# Altium footprint library Hardware.PcbLib: 24 footprints (part 1 of 2)
Each footprint in its own frame and in the unit in brackets; x right, y up, seen from the top. Pads: shape width x height; smd on the part's side, far side on the other; paste and mask are expansions set on the pad; w line width, h text height; cw(c..) or ccw(c..) is an arc to the next point about the centre after c.
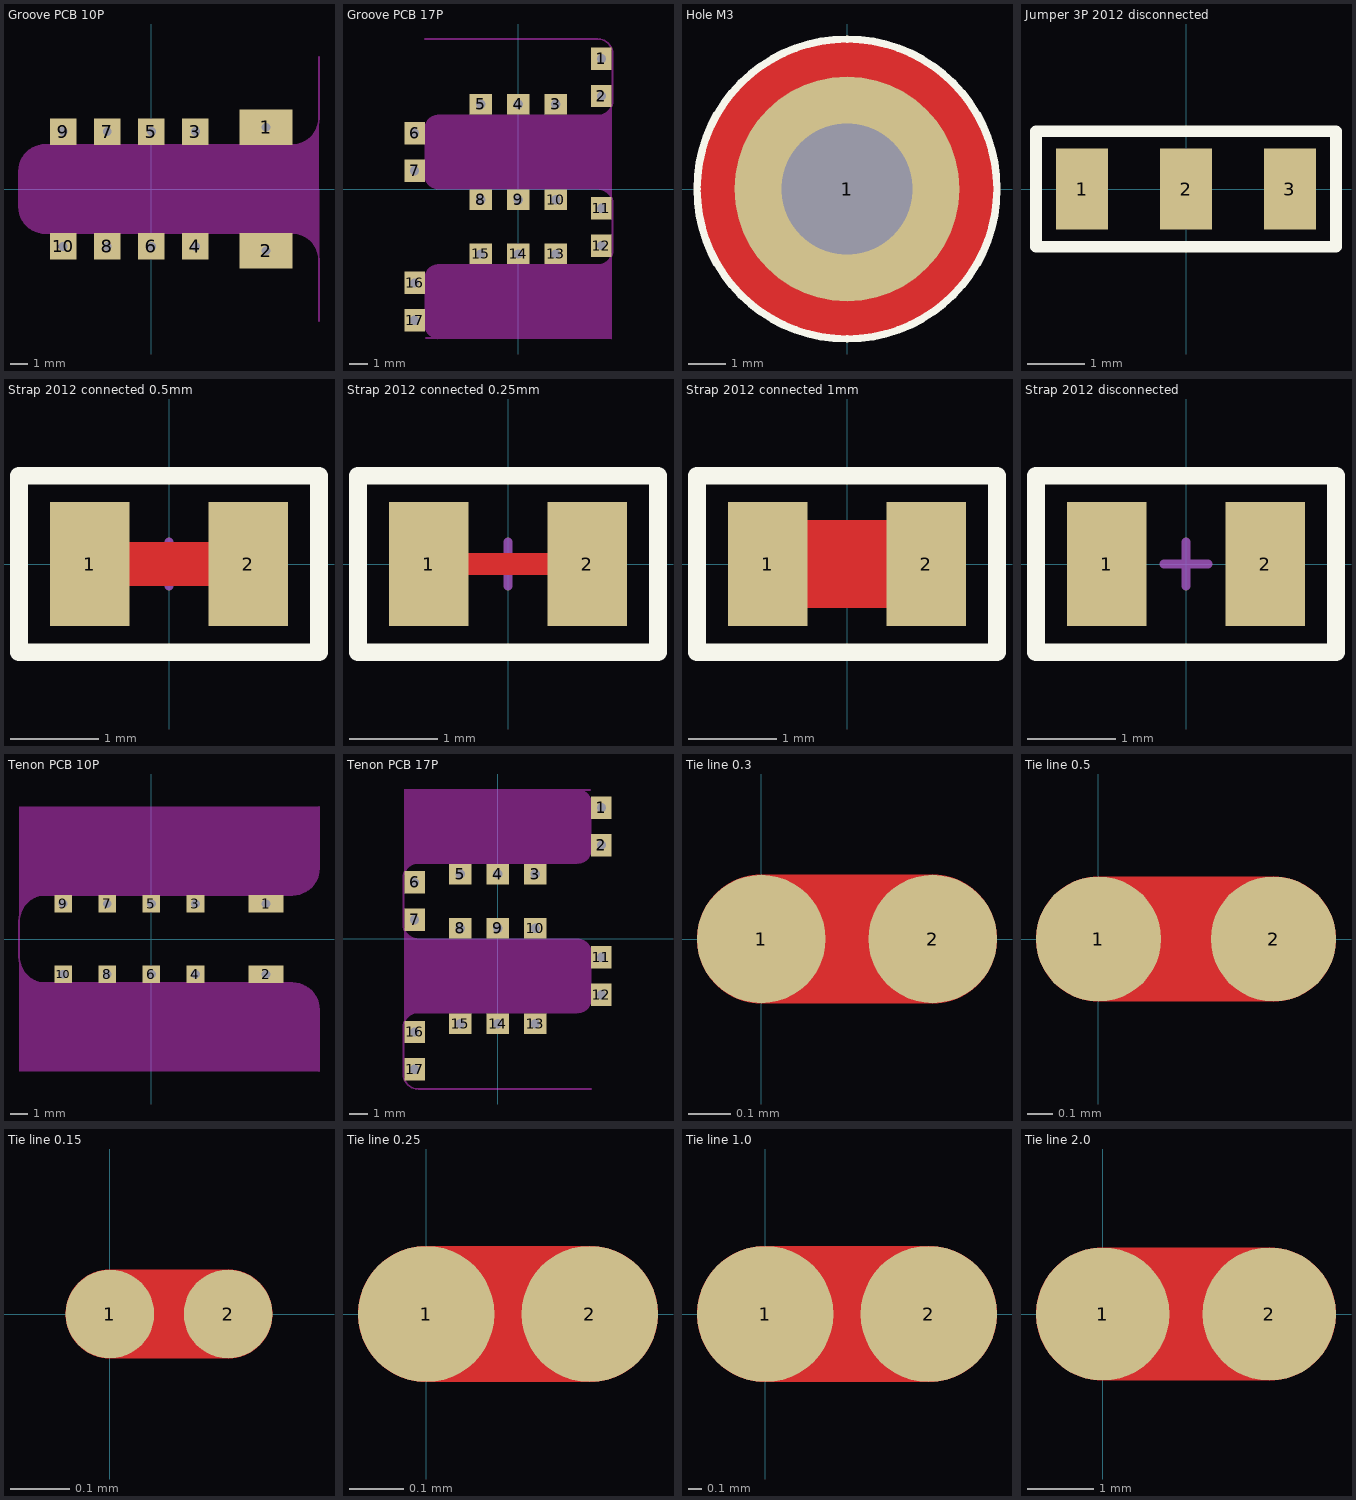
[diagram p0: the footprints below, top view; thin cyan lines are the x and y axes]

## Groove PCB 10P [mm] "Groove PCB connection"
pads (10):
  rect 3x2 hole 0.5: 1(6.5,3.5) 2(6.5,-3.5)
  rect 1.5x1.5 hole 0.5: 3(2.5,3.25) 4(2.5,-3.25) 5(0,3.25) 6(0,-3.25) 7(-2.5,3.25) 8(-2.5,-3.25) 9(-5,3.25) 10(-5,-3.25)
Keep-Out Layer:
  board cut-out: 9.5,4.033 9.493,3.885 9.436,3.594 9.324,3.32 9.161,3.072 8.954,2.86 8.71,2.692 8.438,2.574 8.148,2.51 8,2.5 -6,2.5 -6.147,2.497 -6.434,2.435 -6.704,2.32 -6.947,2.155 -7.155,1.947 -7.32,1.704 -7.435,1.434 -7.497,1.147 -7.5,1 -7.5,-1 -7.5,-1.148 -7.442,-1.438 -7.329,-1.711 -7.165,-1.956 -6.956,-2.165 -6.71,-2.329 -6.438,-2.442 -6.148,-2.5 -6,-2.5 8,-2.5 8.146,-2.51 8.432,-2.572 8.701,-2.687 8.943,-2.85 9.15,-3.057 9.313,-3.299 9.428,-3.568 9.49,-3.854 9.5,-4
Keep-Out Layer:
  lines w0.1: 8,-2.5 -6,-2.5 cw(c-6,-1) -7.5,-1 -7.5,1 cw(c-6,1) -6,2.5 8,2.5 ccw(c8,4) 9.5,4 9.5,7.5 ; 8,-2.5 cw(c8,-4) 9.5,-4 9.5,-7.5

## Groove PCB 17P [mm] "Groove PCB connection"
pads (17):
  rect 1.1x1.2 hole 0.5: 1(4.45,7) 2(4.45,5) 6(-5.55,3) 7(-5.55,1) 11(4.45,-1) 12(4.45,-3) 16(-5.55,-5) 17(-5.55,-7)
  rect 1.2x1.1 hole 0.5: 3(2,4.55) 4(0,4.55) 5(-2,4.55) 8(-2,-0.55) 9(0,-0.55) 10(2,-0.55) 13(2,-3.45) 14(0,-3.45) 15(-2,-3.45)
Keep-Out Layer:
  board cut-out: 5,-8 -4.25,-8 -4.324,-8 -4.469,-7.971 -4.605,-7.915 -4.728,-7.833 -4.833,-7.728 -4.915,-7.605 -4.971,-7.469 -5,-7.324 -5,-7.25 -5,-4.75 -5,-4.676 -4.971,-4.531 -4.915,-4.395 -4.833,-4.272 -4.728,-4.167 -4.605,-4.085 -4.469,-4.029 -4.324,-4 -4.25,-4 4.25,-4 4.324,-3.996 4.468,-3.968 4.604,-3.911 4.726,-3.83 4.83,-3.726 4.911,-3.604 4.968,-3.468 4.996,-3.324 5,-3.25
  board cut-out: 5,-0.75 4.996,-0.676 4.968,-0.532 4.911,-0.396 4.83,-0.274 4.726,-0.17 4.604,-0.089 4.468,-0.032 4.323,-0.004 4.25,0 -4.25,0 -4.324,0 -4.469,0.029 -4.605,0.085 -4.728,0.167 -4.833,0.272 -4.915,0.395 -4.971,0.531 -5,0.676 -5,0.75 -5,3.25 -5,3.324 -4.971,3.469 -4.915,3.605 -4.833,3.728 -4.728,3.833 -4.605,3.915 -4.469,3.971 -4.324,4 -4.25,4 4.3,4 4.369,4.003 4.503,4.03 4.63,4.083 4.744,4.159 4.841,4.256 4.917,4.37 4.97,4.497 4.997,4.631 5,4.7
Keep-Out Layer:
  lines w0.1: -5,8.05 4.25,8.05 cw(c4.25,7.25) 5.05,7.25 5.05,4.75 cw(c4.25,4.75) 4.25,3.95 -4.25,3.95 ccw(c-4.25,3.25) -4.95,3.25 -4.95,0.75 ccw(c-4.25,0.75) -4.25,0.05 4.25,0.05 ; -4.95,-7.95 -4.25,-7.95 cw(c-4.25,-7.25) -4.95,-7.25 -4.95,-4.75 cw(c-4.25,-4.75) -4.25,-4.05 4.25,-4.05 ccw(c4.25,-3.25) 5.05,-3.25 ; 4.25,0.05 cw(c4.25,-0.75) 5.05,-0.75 5.05,-3.25

## Hole M3 [mm]
pads (1):
  round 6 hole 3.5: 1(0,0)
Top Layer:
  pour cut-out: 0,4 0.262,4 0.782,3.932 1.289,3.796 1.773,3.595 2.227,3.333 2.643,3.014 3.014,2.643 3.333,2.227 3.595,1.773 3.796,1.289 3.932,0.782 4,0.262 4,0 4,-0.262 3.932,-0.782 3.796,-1.289 3.595,-1.773 3.333,-2.227 3.014,-2.643 2.643,-3.014 2.227,-3.333 1.773,-3.595 1.288,-3.796 0.782,-3.932 0.262,-4 0,-4 -0.262,-4 -0.782,-3.932 -1.289,-3.796 -1.773,-3.595 -2.227,-3.333 -2.643,-3.014 -3.014,-2.643 -3.333,-2.227 -3.595,-1.773 -3.796,-1.289 -3.932,-0.782 -4,-0.262 -4,0 -4,0.262 -3.932,0.782 -3.796,1.288 -3.595,1.773 -3.333,2.227 -3.014,2.643 -2.643,3.014 -2.227,3.333 -1.773,3.595 -1.289,3.796 -0.782,3.932 -0.262,4
Bottom Layer:
  pour cut-out: 0,4 0.262,4 0.782,3.932 1.289,3.796 1.773,3.595 2.227,3.333 2.643,3.014 3.014,2.643 3.333,2.227 3.595,1.773 3.796,1.289 3.932,0.782 4,0.262 4,0 4,-0.262 3.932,-0.782 3.796,-1.289 3.595,-1.773 3.333,-2.227 3.014,-2.643 2.643,-3.014 2.227,-3.333 1.773,-3.595 1.288,-3.796 0.782,-3.932 0.262,-4 0,-4 -0.262,-4 -0.782,-3.932 -1.289,-3.796 -1.773,-3.595 -2.227,-3.333 -2.643,-3.014 -3.014,-2.643 -3.333,-2.227 -3.595,-1.773 -3.796,-1.289 -3.932,-0.782 -4,-0.262 -4,0 -4,0.262 -3.932,0.782 -3.796,1.288 -3.595,1.773 -3.333,2.227 -3.014,2.643 -2.643,3.014 -2.227,3.333 -1.773,3.595 -1.289,3.796 -0.782,3.932 -0.262,4
Top Overlay:
  circle w0.2: c0,0 r4
Bottom Overlay:
  circle w0.2: c0,0 r4
Top Package:
  circle w0.1: c0,0 r1.75
  lines w0.1: -3,0 -1.5,2.6 1.5,2.6 3,0 1.5,-2.6 -1.5,-2.6 -3,0
Bottom Package:
  circle w0.1: c0,0 r1.75
  lines w0.1: -3,0 -1.5,-2.6 1.5,-2.6 3,0 1.5,2.6 -1.5,2.6 -3,0
Top Border:
  circle w0.1: c0,0 r4

## Jumper 3P 2012 disconnected [mm]
pads (3):
  rect 0.9x1.4 smd: 1(-1.8,0) 2(0,0) 3(1.8,0)
Top Overlay:
  lines w0.2: -2.6,-1 2.6,-1 2.6,1 -2.6,1 -2.6,-1
Top Border:
  lines w0.1: -0.25,0 0.25,0 ; 0,-0.25 0,0.25 ; -2.6,-1 -2.6,1 2.6,1 2.6,-1 -2.6,-1

## Strap 2012 connected 0.5mm [mm] "Strap 2012 connected 0.5mm"
pads (2):
  rect 0.9x1.4 smd: 1(-0.9,0) 2(0.9,0)
Top Layer:
  rectangle: -1,-0.25 1,0.25
Top Overlay:
  lines w0.2: -1.7,-1 -1.7,1 1.7,1 1.7,-1 -1.7,-1
Top Border:
  lines w0.1: -0.25,0 0.25,0 ; 0,-0.25 0,0.25 ; -1.7,-1 1.7,-1 1.7,1 -1.7,1 -1.7,-1

## Strap 2012 connected 0.25mm [mm] "Strap 2012 connected 0.25mm"
pads (2):
  rect 0.9x1.4 smd paste+0 mask+0.102: 1(-0.9,0)
  rect 0.9x1.4 smd: 2(0.9,0)
Top Layer:
  rectangle: -0.9,-0.125 0.9,0.125
Top Overlay:
  lines w0.2: -1.7,-1 -1.7,1 1.7,1 1.7,-1 -1.7,-1
Top Border:
  lines w0.1: -0.25,0 0.25,0 ; 0,-0.25 0,0.25 ; -1.7,-1 1.7,-1 1.7,1 -1.7,1 -1.7,-1

## Strap 2012 connected 1mm [mm] "Strap 2012 connected 1mm"
pads (2):
  rect 0.9x1.4 smd: 1(-0.9,0) 2(0.9,0)
Top Layer:
  rectangle: -1,-0.5 1,0.5
Top Overlay:
  lines w0.2: -1.7,-1 -1.7,1 1.7,1 1.7,-1 -1.7,-1
Top Border:
  lines w0.1: -0.25,0 0.25,0 ; 0,-0.25 0,0.25 ; -1.7,-1 1.7,-1 1.7,1 -1.7,1 -1.7,-1

## Strap 2012 disconnected [mm] "Strap 2012 disconnected"
pads (2):
  rect 0.9x1.4 smd: 1(-0.9,0) 2(0.9,0)
Top Overlay:
  lines w0.2: -1.7,-1 1.7,-1 1.7,1 -1.7,1 -1.7,-1
Top Border:
  lines w0.1: -0.25,0 0.25,0 ; 0,-0.25 0,0.25 ; -1.7,-1 -1.7,1 1.7,1 1.7,-1 -1.7,-1

## Tenon PCB 10P [mm] "Tenon PCB connection"
pads (10):
  rect 2x1 hole 0.5: 1(6.5,2) 2(6.5,-2)
  rect 1x1 hole 0.5: 3(2.5,2) 4(2.5,-2) 5(0,2) 6(0,-2) 7(-2.5,2) 8(-2.5,-2) 9(-5,2) 10(-5,-2)
Keep-Out Layer:
  board cut-out: -7.5,1 -7.491,1.147 -7.432,1.434 -7.318,1.704 -7.155,1.947 -6.947,2.154 -6.704,2.318 -6.434,2.432 -6.147,2.491 -6,2.5 8,2.5 8.147,2.503 8.434,2.565 8.704,2.68 8.947,2.845 9.155,3.053 9.319,3.296 9.435,3.566 9.497,3.853 9.5,4 9.5,7.5 -7.5,7.5
  board cut-out: -7.5,-1 -7.49,-1.146 -7.428,-1.432 -7.313,-1.701 -7.149,-1.943 -6.943,-2.149 -6.701,-2.313 -6.432,-2.428 -6.146,-2.49 -6,-2.5 8.003,-2.5 8.149,-2.503 8.436,-2.566 8.706,-2.681 8.948,-2.846 9.156,-3.054 9.32,-3.297 9.435,-3.567 9.497,-3.853 9.5,-4 9.5,-7.5 -7.5,-7.5
Keep-Out Layer:
  lines w0.1: 8,-2.5 -6,-2.5 cw(c-6,-1) -7.5,-1 -7.5,1 cw(c-6,1) -6,2.5 8,2.5 ccw(c8,4) 9.5,4 9.5,7.5 ; 8,-2.5 cw(c8,-4) 9.5,-4 9.5,-7.5

## Tenon PCB 17P [mm] "Tenon PCB connection"
pads (17):
  rect 1.1x1.2 hole 0.5: 1(5.55,7) 2(5.55,5) 6(-4.45,3) 7(-4.45,1) 11(5.55,-1) 12(5.55,-3) 16(-4.45,-5) 17(-4.45,-7)
  rect 1.2x1.1 hole 0.5: 3(2,3.45) 4(0,3.45) 5(-2,3.45) 8(-2,0.55) 9(0,0.55) 10(2,0.55) 13(2,-4.55) 14(0,-4.55) 15(-2,-4.55)
Keep-Out Layer:
  board cut-out: -5,8 4.25,8 4.324,8 4.469,7.971 4.605,7.915 4.728,7.833 4.833,7.728 4.915,7.605 4.971,7.469 5,7.324 5,7.25 5,4.75 5,4.676 4.971,4.531 4.915,4.395 4.833,4.272 4.728,4.167 4.605,4.085 4.469,4.029 4.324,4 4.25,4 -4.25,4 -4.324,3.996 -4.468,3.968 -4.604,3.911 -4.726,3.83 -4.83,3.726 -4.911,3.604 -4.968,3.468 -4.996,3.324 -5,3.25
  board cut-out: -5,0.75 -4.996,0.676 -4.968,0.532 -4.911,0.396 -4.83,0.274 -4.726,0.17 -4.604,0.089 -4.468,0.032 -4.324,0.004 -4.25,0 4.25,0 4.324,0 4.469,-0.029 4.605,-0.085 4.728,-0.167 4.833,-0.272 4.915,-0.395 4.971,-0.531 5,-0.676 5,-0.75 5,-3.25 5,-3.324 4.971,-3.469 4.915,-3.605 4.833,-3.728 4.728,-3.833 4.605,-3.915 4.469,-3.971 4.324,-4 4.25,-4 -4.3,-4 -4.369,-4.003 -4.503,-4.03 -4.63,-4.083 -4.744,-4.159 -4.841,-4.256 -4.917,-4.37 -4.97,-4.497 -4.997,-4.631 -5,-4.7
Keep-Out Layer:
  lines w0.1: -5.05,3.25 cw(c-4.25,3.25) -4.25,4.05 4.25,4.05 ccw(c4.25,4.75) 4.95,4.75 4.95,7.25 ccw(c4.25,7.25) 4.25,7.95 4.95,7.95 ; -5.05,3.25 -5.05,0.75 ccw(c-4.25,0.75) -4.25,-0.05 ; -4.25,-0.05 4.25,-0.05 cw(c4.25,-0.75) 4.95,-0.75 4.95,-3.25 cw(c4.25,-3.25) 4.25,-3.95 -4.25,-3.95 ccw(c-4.25,-4.75) -5.05,-4.75 -5.05,-7.25 ccw(c-4.25,-7.25) -4.25,-8.05 5,-8.05

## Tie line 0.3 [mm] "Tie line 0.3"
pads (2):
  round 0.3 smd paste-0.2 mask-0.2: 1(0,0) 2(0.4,0)
Top Layer:
  lines w0.3: 0,0 0.4,0

## Tie line 0.5 [mm] "Tie line 0.5"
pads (2):
  round 0.5 smd paste-0.3 mask-0.3: 1(0,0) 2(0.7,0)
Top Layer:
  lines w0.5: 0,0 0.7,0

## Tie line 0.15 [mm] "Tie line 0.15"
pads (2):
  round 0.15 smd paste-0.1 mask-0.1: 1(0,0) 2(0.2,0)
Top Layer:
  lines w0.15: 0,0 0.2,0

## Tie line 0.25 [mm] "Tie line 0.25"
pads (2):
  round 0.25 smd paste-0.15 mask-0.15: 1(0,0) 2(0.3,0)
Top Layer:
  lines w0.25: 0,0 0.3,0

## Tie line 1.0 [mm] "Tie line 1.0"
pads (2):
  round 1 smd paste-0.6 mask-0.6: 1(0,0) 2(1.2,0)
Top Layer:
  lines w1: 0,0 1.2,0

## Tie line 2.0 [mm] "Tie line 2.0"
pads (2):
  round 2 smd paste-1.1 mask-1.1: 1(0,0) 2(2.5,0)
Top Layer:
  lines w2: 0,0 2.5,0